# EAGLE library part S25FL1 (library st-microelectronics)
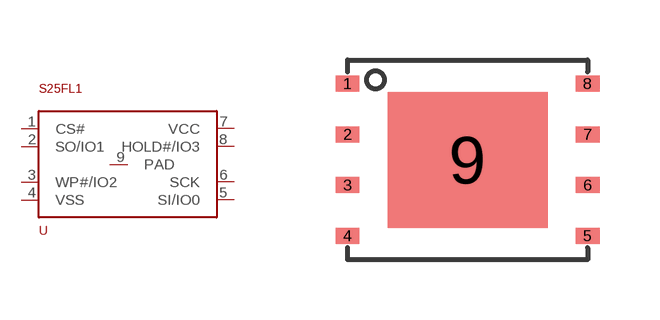
[diagram p41: symbol with the pads of 8WSON; footprint 8WSON]

Designator prefix -

## S25FL1  [8WSON]
1  CS#
2  SO/IO1
3  WP#/IO2
4  VSS
5  SI/IO0
6  SCK
7  VCC
8  HOLD#/IO3
9  PAD

## Footprint 8WSON (pad centres in mm)
smd 0.6 x 0.4: 1 -3,1.905; 2 -3,0.635; 3 -3,-0.635; 4 -3,-1.905; 5 3,-1.905; 6 3,-0.635; 7 3,0.635; 8 3,1.905
smd 4 x 3.4: 9 0,0